# EAGLE library part BTN7960B (library BTN7960B)
Motor Driver Power MOSFET On/Off PG-TO263-7 Check availability <https://pricing.snapeda.com/parts/BTN7960B/Infineon%20Technologies/view-part?ref=eda>
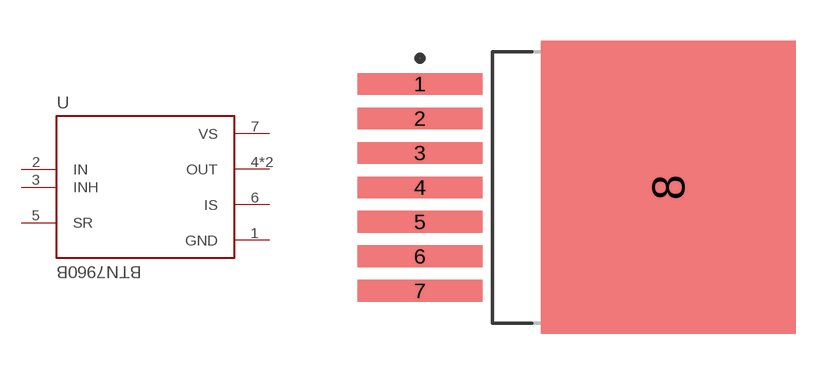
[diagram p0: symbol with the pads of IC_BTN7960B; footprint IC_BTN7960B]

Designator prefix U

## BTN7960B (Availability: In Stock; Description: Motor / Motion / Ignition Controllers & Drivers HI CRRENT PN HALF BRIDGE NOVALITH IC; MF: Infineon Technologies; MP: BTN7960B; Package: TO-263-8 Infineon Technologies; Price: None; Purchase-URL: https://pricing.snapeda.com/search/part/BTN7960B/?ref=eda)  [IC_BTN7960B]
1  GND  pwr
2  IN  in
3  INH  in
4  OUT  out
5  SR  in
6  IS  out
7  VS  pwr
8  OUT  out

## Footprint IC_BTN7960B (pad centres in mm)
smd 4.6 x 0.8: 1 -5.775,3.81; 2 -5.775,2.54; 3 -5.775,1.27; 4 -5.775,0; 5 -5.775,-1.27; 6 -5.775,-2.54; 7 -5.775,-3.81
smd 9.4 x 10.8: 8 3.375,0